# Altium schematic symbol library S2B-13-F.SchLib: 2 symbols
Pins are listed as number, name and electrical type; pins without a type are passive.

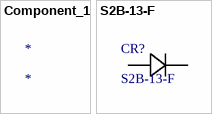
[diagram p0: symbols Component_1 to S2B-13-F]

## Component_1
designator *

## S2B-13-F
designator CR?
No Description Available; Mfr_Name: Diodes Inc; Type: DEV; Copyright: Copyright (C) 2022 Ultra Librarian. All rights reserved.; Manufacturer_Part_Number: S2B-13-F; Digi-Key_Part_Number_1: S2B-FDICT-ND; Digi-Key_Part_Number_2: S2B-FDIDKR-ND; Digi-Key_Part_Number_3: S2B-FDITR-ND; RefDes: RefDes
footprint SMB_DIO-M
pins: 1, 2